# Altium footprint library AUVic_Integrated_Library_LCDs.PcbLib: 1 footprints
Each footprint in its own frame and in the unit in brackets; x right, y up, seen from the top. Pads: shape width x height; smd on the part's side, far side on the other; paste and mask are expansions set on the pad; w line width, h text height; cw(c..) or ccw(c..) is an arc to the next point about the centre after c.
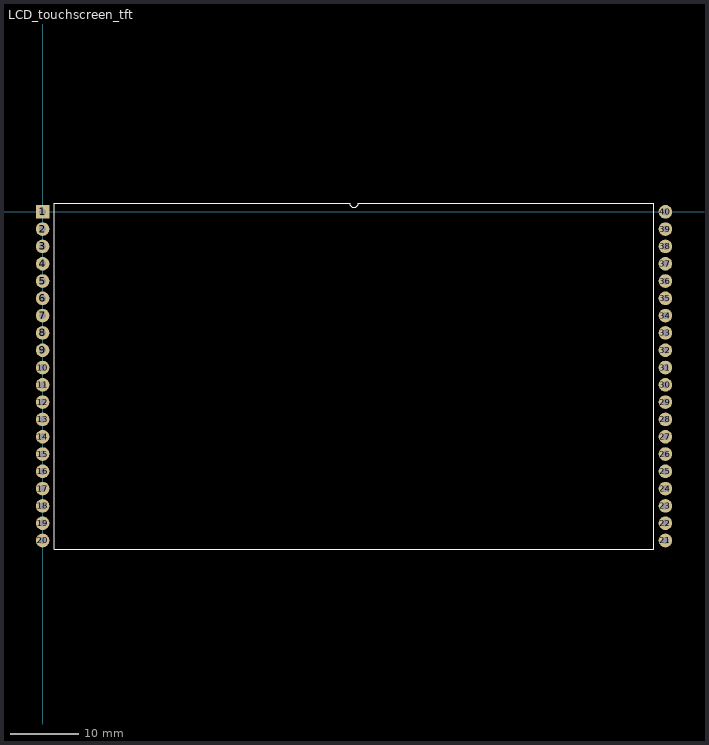
[diagram p0: the footprint, top view; thin cyan lines are the x and y axes]

## LCD_touchscreen_tft [mm]
pads (40):
  rect 2x2 hole 1.02: 1(0,0)
  round 2 hole 1.02: 2(0,-2.54) 3(0,-5.08) 4(0,-7.62) 5(0,-10.16) 6(0,-12.7) 7(0,-15.24) 8(0,-17.78) 9(0,-20.32) 10(0,-22.86) 11(0,-25.4) 12(0,-27.94) 13(0,-30.48) 14(0,-33.02) 15(0,-35.56) 16(0,-38.1) 17(0,-40.64) 18(0,-43.18) 19(0,-45.72) 20(0,-48.26) 21(91.44,-48.26) 22(91.44,-45.72) 23(91.44,-43.18) 24(91.44,-40.64) 25(91.44,-38.1) 26(91.44,-35.56) 27(91.44,-33.02) 28(91.44,-30.48) 29(91.44,-27.94) 30(91.44,-25.4) 31(91.44,-22.86) 32(91.44,-20.32) 33(91.44,-17.78) 34(91.44,-15.24) 35(91.44,-12.7) 36(91.44,-10.16) 37(91.44,-7.62) 38(91.44,-5.08) 39(91.44,-2.54) 40(91.44,0)
Top Overlay:
  lines w0.1: 1.735,-49.53 89.705,-49.53 89.705,1.27 46.355,1.27 cw(c45.72,1.27) 45.085,1.27 1.735,1.27 1.735,-49.53